# Altium schematic symbol library Switch.SchLib: 3 symbols
Pins are listed as number, name and electrical type; pins without a type are passive.

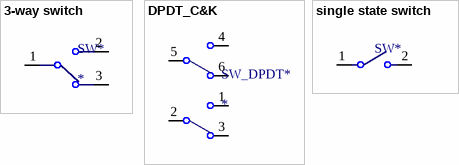
[diagram p0: symbols 3-way switch to single state switch]

## 3-way switch
designator SW*
footprint Slide_Switch (CL-SB-22B-01T)
pins: 1, 2, 3

## DPDT_C&K
designator SW_DPDT*
footprint JS202011SCQN_C&K
pins: 1, 2, 3, 4, 5, 6

## single state switch
designator SW*  (value not drawn)
footprint TACT_SWITCH_SMD
pins: 1, 2